# EAGLE library part PINHD-1X12 (library untitled)
PIN HEADER
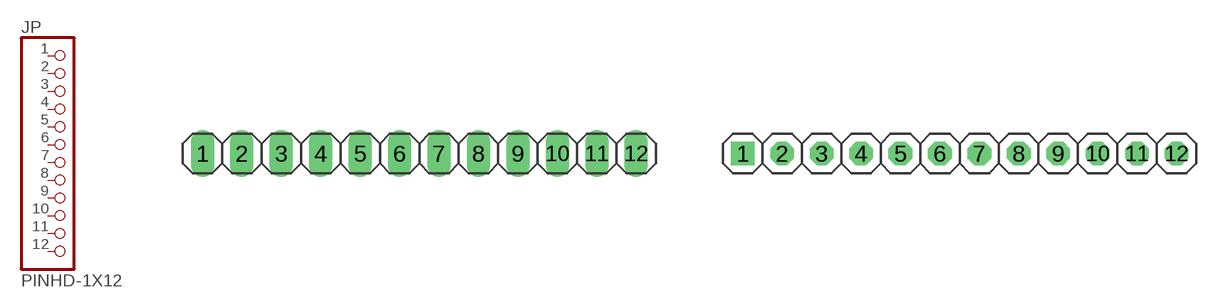
[diagram p6: symbol with the pads of 1X12; footprints 1X12, 1X12-S]

Designator prefix JP

## PINHD-1X12_2.54  [1X12]
1  1  pas
2  2  pas
3  3  pas
4  4  pas
5  5  pas
6  6  pas
7  7  pas
8  8  pas
9  9  pas
10  10  pas
11  11  pas
12  12  pas

## PINHD-1X12_2.54-S  [1X12-S]
Pads as for 1X12

## PINHD-1X12_2.54-90°  [1X12/90]
Pads as for 1X12

## PINHD-1X12_2.54-90°-S  [1X12/90-S]
Pads as for 1X12

## PINHD-1X12_2.00  [1X12M]
Pads as for 1X12

## PINHD-1X12_2.54-SMD  [1X12SMD]
Pads as for 1X12

## PINHD-1X12_2.54-SMD-90°  [1X12SMD/90]
Pads as for 1X12

## Footprint 1X12 (pad centres in mm)
PIN HEADER - 2.54
drill 1.016 long: 1 -13.97,0; 2 -11.43,0; 3 -8.89,0; 4 -6.35,0; 5 -3.81,0; 6 -1.27,0; 7 1.27,0; 8 3.81,0; 9 6.35,0; 10 8.89,0; 11 11.43,0; 12 13.97,0

## Footprint 1X12-S (pad centres in mm)
PIN HEADER - 2.54
drill 1.016 square: 1 -13.97,0
drill 1.016 octagon: 2 -11.43,0; 3 -8.89,0; 4 -6.35,0; 5 -3.81,0; 6 -1.27,0; 7 1.27,0; 8 3.81,0; 9 6.35,0; 10 8.89,0; 11 11.43,0; 12 13.97,0

## Footprint 1X12/90 (pad centres in mm)
PIN HEADER - 2.54 90°
drill 1.016 long: 1 -13.97,-3.81; 2 -11.43,-3.81; 3 -8.89,-3.81; 4 -6.35,-3.81; 5 -3.81,-3.81; 6 -1.27,-3.81; 7 1.27,-3.81; 8 3.81,-3.81; 9 6.35,-3.81; 10 8.89,-3.81; 11 11.43,-3.81; 12 13.97,-3.81

## Footprint 1X12/90-S (pad centres in mm)
PIN HEADER - 2.54 90°
drill 1.016 square: 1 -13.97,-3.81
drill 1.016 octagon: 2 -11.43,-3.81; 3 -8.89,-3.81; 4 -6.35,-3.81; 5 -3.81,-3.81; 6 -1.27,-3.81; 7 1.27,-3.81; 8 3.81,-3.81; 9 6.35,-3.81; 10 8.89,-3.81; 11 11.43,-3.81; 12 13.97,-3.81

## Footprint 1X12M (pad centres in mm)
PIN HEADER - 2
drill 0.914 square: 1 -11,0
drill 0.914 round: 2 -9,0; 3 -7,0; 4 -5,0; 5 -3,0; 6 -1,0; 7 1,0; 8 3,0; 9 5,0; 10 7,0; 11 9,0; 12 11,0

## Footprint 1X12SMD (pad centres in mm)
PIN HEADER - 2.54 SMD
smd 1.016 x 3.302: 1 -1.27,1.27; 2 1.27,-1.27; 3 3.81,1.27; 4 6.35,-1.27; 5 8.89,1.27; 6 11.43,-1.27; 7 13.97,1.27; 8 16.51,-1.27; 9 19.05,1.27; 10 21.59,-1.27; 11 24.13,1.27; 12 26.67,-1.27

## Footprint 1X12SMD/90 (pad centres in mm)
PIN HEADER - 2.54 90°
smd 1.016 x 1.778: 1 -1.27,-5.08; 2 1.27,-5.08; 3 3.81,-5.08; 4 6.35,-5.08; 5 8.89,-5.08; 6 11.43,-5.08; 7 13.97,-5.08; 8 16.51,-5.08; 9 19.05,-5.08; 10 21.59,-5.08; 11 24.13,-5.08; 12 26.67,-5.08